# Altium footprint library SOP.PcbLib: 214 footprints (part 13 of 14)
Each footprint in its own frame and in the unit in brackets; x right, y up, seen from the top. Pads: shape width x height; smd on the part's side, far side on the other; paste and mask are expansions set on the pad; w line width, h text height; cw(c..) or ccw(c..) is an arc to the next point about the centre after c.
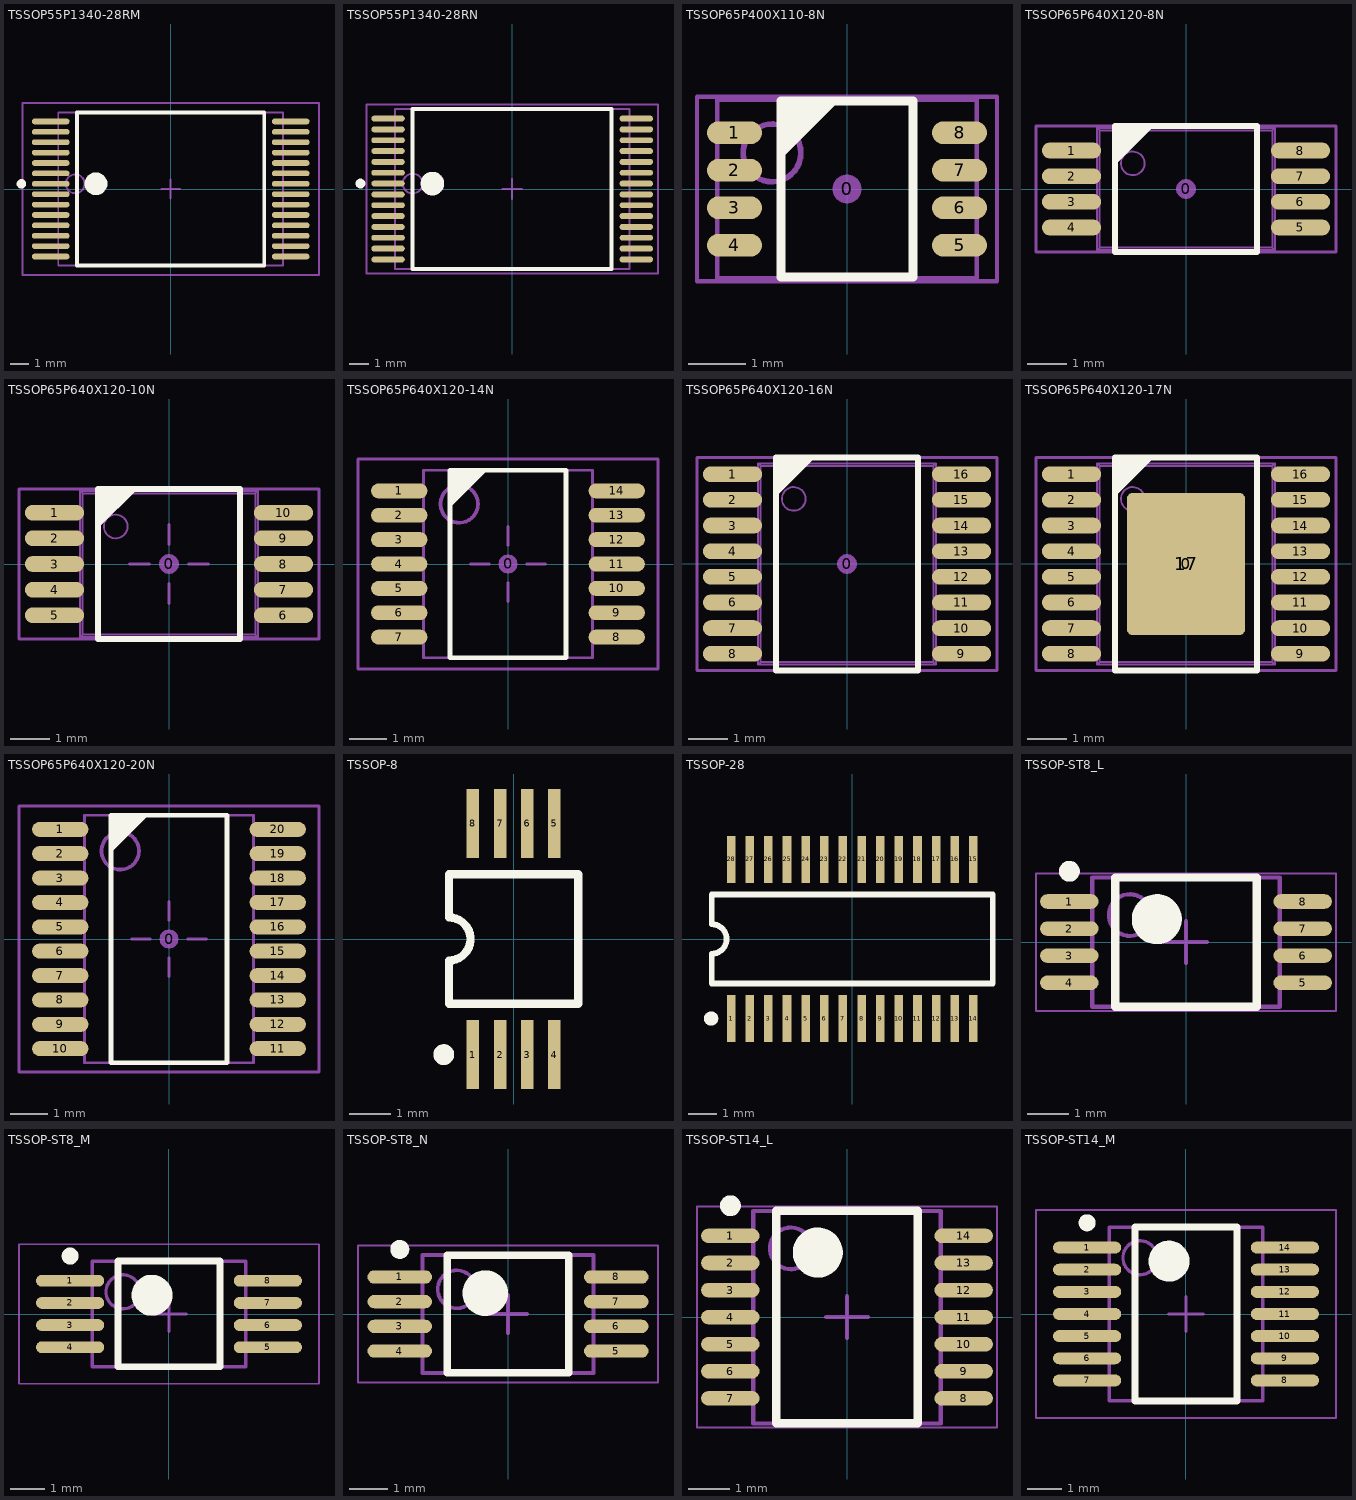
[diagram p12: the footprints below, top view; thin cyan lines are the x and y axes]

## TSSOP55P1340-28RM [mm] "TSSOP, 28-Leads, Body 8x11.8mm, Pitch 0.55mm, Reverse Pinning, IPC Low Density"
height 1.29
pads (28):
  oval 2x0.3 smd: 1(-6.35,0.275) 2(-6.35,0.825) 3(-6.35,1.375) 4(-6.35,1.925) 5(-6.35,2.475) 6(-6.35,3.025) 7(-6.35,3.575) 8(6.35,3.575) 9(6.35,3.025) 10(6.35,2.475) 11(6.35,1.925) 12(6.35,1.375) 13(6.35,0.825) 14(6.35,0.275) 15(6.35,-0.275) 16(6.35,-0.825) 17(6.35,-1.375) 18(6.35,-1.925) 19(6.35,-2.475) 20(6.35,-3.025) 21(6.35,-3.575) 22(-6.35,-3.575) 23(-6.35,-3.025) 24(-6.35,-2.475) 25(-6.35,-1.925) 26(-6.35,-1.375) 27(-6.35,-0.825) 28(-6.35,-0.275)
Top Overlay:
  circle w0.6: c-3.95,0.275 r0.3
  circle w0.25: c-7.9,0.275 r0.125
  lines w0.2: -4.95,-4.05 4.95,-4.05 4.95,4.05 -4.95,4.05 -4.95,-4.05
Mechanical 13:
  circle w0.1: c-5.05,0.275 r0.5
  lines w0.1: -5.95,-4.05 5.95,-4.05 5.95,4.05 -5.95,4.05 -5.95,-4.05
Mechanical 15:
  lines w0.1: -0.5,0 0.5,0 ; 0,-0.5 0,0.5 ; -7.85,-4.55 7.85,-4.55 7.85,4.55 -7.85,4.55 -7.85,-4.55
3D body: height 1.29, standoff 0.05, extent -5.95,-4.05 5.95,4.05

## TSSOP55P1340-28RN [mm] "TSSOP, 28-Leads, Body 8x11.8mm, Pitch 0.55mm, Reverse Pinning, IPC Medium Density"
height 1.29
pads (28):
  oval 1.7x0.3 smd: 1(-6.3,0.275) 2(-6.3,0.825) 3(-6.3,1.375) 4(-6.3,1.925) 5(-6.3,2.475) 6(-6.3,3.025) 7(-6.3,3.575) 8(6.3,3.575) 9(6.3,3.025) 10(6.3,2.475) 11(6.3,1.925) 12(6.3,1.375) 13(6.3,0.825) 14(6.3,0.275) 15(6.3,-0.275) 16(6.3,-0.825) 17(6.3,-1.375) 18(6.3,-1.925) 19(6.3,-2.475) 20(6.3,-3.025) 21(6.3,-3.575) 22(-6.3,-3.575) 23(-6.3,-3.025) 24(-6.3,-2.475) 25(-6.3,-1.925) 26(-6.3,-1.375) 27(-6.3,-0.825) 28(-6.3,-0.275)
Top Overlay:
  circle w0.6: c-4.05,0.275 r0.3
  circle w0.25: c-7.7,0.275 r0.125
  lines w0.2: -5.05,-4.05 5.05,-4.05 5.05,4.05 -5.05,4.05 -5.05,-4.05
Mechanical 13:
  circle w0.1: c-5.05,0.275 r0.5
  lines w0.1: -5.95,-4.05 5.95,-4.05 5.95,4.05 -5.95,4.05 -5.95,-4.05
Mechanical 15:
  lines w0.1: -0.5,0 0.5,0 ; 0,-0.5 0,0.5 ; -7.4,-4.3 7.4,-4.3 7.4,4.3 -7.4,4.3 -7.4,-4.3
3D body: height 1.29, standoff 0.05, extent -5.95,-4.05 5.95,4.05

## TSSOP65P400X110-8N [mm] "TSSOP, 8 Leads, Body 3.1x3.1mm (max), lead span 4.0mm, Pitch 0.65mm, IPC Medium Density"
height 1.1
pads (9):
  round 0.508 on Mech15: 0(0,0)
  oval 0.95x0.396 smd paste-0.051: 1(-1.95,0.975) 2(-1.95,0.325) 3(-1.95,-0.325) 4(-1.95,-0.975) 5(1.95,-0.975) 6(1.95,-0.325) 7(1.95,0.325) 8(1.95,0.975)
Top Overlay:
  region: -1.143,1.524 -0.143,1.524 -1.143,0.524
  lines w0.152: -1.143,-1.524 -1.143,1.524 1.143,1.524 1.143,-1.524 -1.143,-1.524
  text "." at -1.925,1.65 h0.1
Top Solder:
  region: 2.3,1.016 1.6,1.016 1.6,-1.016 2.3,-1.016
  rectangle: -2.3,-1.016 -1.6,1.016
Mechanical 13:
  circle w0.1: c-1.3,0.625 r0.5
  lines w0.076: -2.25,-1.55 -2.25,1.55 2.25,1.55 2.25,-1.55 -2.25,-1.55
Mechanical 15:
  lines w0.076: -2.6,-1.6 -2.6,1.6 2.6,1.6 2.6,-1.6 -2.6,-1.6
3D body "TSSOP65P400X110-8.STEP": height 1.09, standoff -0.01, extent -2.05,-1.55 2.05,1.55

## TSSOP65P640X120-8N [mm] "TSSOP, 8 Leads, Body 3.1x4.5mm (max), Pitch 0.65mm, IPC Medium Density"
height 1.2
pads (9):
  round 0.508 on Mech15: 0(0,0)
  oval 1.5x0.4 smd paste-0.051: 1(-2.9,0.975) 2(-2.9,0.325) 3(-2.9,-0.325) 4(-2.9,-0.975) 5(2.9,-0.975) 6(2.9,-0.325) 7(2.9,0.325) 8(2.9,0.975)
Top Overlay:
  region: -1.8,1.6 -0.8,1.6 -1.8,0.6
  lines w0.152: -1.8,-1.6 -1.8,1.6 1.8,1.6 1.8,-1.6 -1.8,-1.6
  text "." at -2.85,1.7 h0.1
Top Solder:
  rectangle: -3.5,-1.016 -2.3,1.016
  region: 3.5,1.016 2.3,1.016 2.3,-1.016 3.5,-1.016
Mechanical 13:
  circle w0.05: c-1.35,0.65 r0.3
  lines w0.05: -2.839,-1.125 -2.839,-0.825 ; -2.839,-0.475 -2.839,-0.175 ; -2.839,0.175 -2.839,0.475 ; -2.839,0.825 -2.839,1.125 ; -2.795,-1.125 -2.795,-0.825 ; -2.795,-0.475 -2.795,-0.175 ; -2.795,0.175 -2.795,0.475 ; -2.795,0.825 -2.795,1.125 ; -2.693,-1.125 -2.693,-0.825 ; -2.693,-0.475 -2.693,-0.175 ; -2.693,0.175 -2.693,0.475 ; -2.693,0.825 -2.693,1.125 ; -2.5,-1.125 -2.5,-0.825 ; -2.5,-0.475 -2.5,-0.175 ; -2.5,0.175 -2.5,0.475 ; -2.5,0.825 -2.5,1.125 ; -2.25,-1.125 -3.25,-1.125 -3.25,-0.825 -2.25,-0.825 ; -2.25,-0.475 -3.25,-0.475 -3.25,-0.175 -2.25,-0.175 ; -2.25,0.175 -3.25,0.175 -3.25,0.475 -2.25,0.475 ; -2.25,0.825 -3.25,0.825 -3.25,1.125 -2.25,1.125 ; 2.25,-1.125 3.25,-1.125 3.25,-0.825 2.25,-0.825 ; 2.25,-0.475 3.25,-0.475 3.25,-0.175 2.25,-0.175 ; 2.25,0.175 3.25,0.175 3.25,0.475 2.25,0.475 ; 2.25,0.825 3.25,0.825 3.25,1.125 2.25,1.125 ; 2.5,-1.125 2.5,-0.825 ; 2.5,-0.475 2.5,-0.175 ; 2.5,0.175 2.5,0.475 ; 2.5,0.825 2.5,1.125 ; 2.693,-1.125 2.693,-0.825 ; 2.693,-0.475 2.693,-0.175 ; 2.693,0.175 2.693,0.475 ; 2.693,0.825 2.693,1.125 ; 2.795,-1.125 2.795,-0.825 ; 2.795,-0.475 2.795,-0.175 ; 2.795,0.175 2.795,0.475 ; 2.795,0.825 2.795,1.125 ; 2.839,-1.125 2.839,-0.825 ; 2.839,-0.475 2.839,-0.175 ; 2.839,0.175 2.839,0.475 ; 2.839,0.825 2.839,1.125 ; -2.25,-1.55 -2.25,1.55 ; -2.25,-1.55 -2.187,-1.487 ; -2.25,-1.55 2.25,-1.55 ; -2.25,1.55 2.25,1.55 ; -2.25,1.55 -2.187,1.487 ; -2.187,-1.487 -2.187,1.487 ; -2.187,-1.487 2.187,-1.487 ; -2.187,1.487 2.187,1.487 ; 2.187,-1.487 2.187,1.487 ; 2.187,-1.487 2.25,-1.55 ; 2.187,1.487 2.25,1.55 ; 2.25,-1.55 2.25,1.55
Mechanical 15:
  lines w0.076: -3.8,-1.6 -3.8,1.6 3.8,1.6 3.8,-1.6 -3.8,-1.6
3D body "TSSOP-8.STEP": height 1.19, standoff -0.01, extent -3.25,-1.55 3.25,1.55

## TSSOP65P640X120-10N [mm] "TSSOP, 10 Leads, Body 3.7x4.5mm (max), Pitch 0.65mm, IPC Medium Density"
height 1.2
pads (11):
  round 0.508 on Mech15: 0(0,0)
  oval 1.5x0.4 smd paste-0.051: 1(-2.9,1.3) 2(-2.9,0.65) 3(-2.9,0) 4(-2.9,-0.65) 5(-2.9,-1.3) 6(2.9,-1.3) 7(2.9,-0.65) 8(2.9,0) 9(2.9,0.65) 10(2.9,1.3)
Top Overlay:
  region: -1.8,1.9 -0.8,1.9 -1.8,0.9
  lines w0.152: -1.8,-1.9 -1.8,1.9 1.8,1.9 1.8,-1.9 -1.8,-1.9
  text "." at -2.85,2.025 h0.1
Top Solder:
  rectangle: -3.5,-1.3 -2.3,1.3
  region: 3.5,1.3 2.3,1.3 2.3,-1.3 3.5,-1.3
Mechanical 13:
  circle w0.05: c-1.35,0.95 r0.3
  lines w0.05: -2.839,-1.45 -2.839,-1.15 ; -2.839,-0.8 -2.839,-0.5 ; -2.839,-0.15 -2.839,0.15 ; -2.839,0.5 -2.839,0.8 ; -2.839,1.15 -2.839,1.45 ; -2.795,-1.45 -2.795,-1.15 ; -2.795,-0.8 -2.795,-0.5 ; -2.795,-0.15 -2.795,0.15 ; -2.795,0.5 -2.795,0.8 ; -2.795,1.15 -2.795,1.45 ; -2.693,-1.45 -2.693,-1.15 ; -2.693,-0.8 -2.693,-0.5 ; -2.693,-0.15 -2.693,0.15 ; -2.693,0.5 -2.693,0.8 ; -2.693,1.15 -2.693,1.45 ; -2.5,-1.45 -2.5,-1.15 ; -2.5,-0.8 -2.5,-0.5 ; -2.5,-0.15 -2.5,0.15 ; -2.5,0.5 -2.5,0.8 ; -2.5,1.15 -2.5,1.45 ; -2.25,-1.45 -3.25,-1.45 -3.25,-1.15 -2.25,-1.15 ; -2.25,-0.8 -3.25,-0.8 -3.25,-0.5 -2.25,-0.5 ; -2.25,-0.15 -3.25,-0.15 -3.25,0.15 -2.25,0.15 ; -2.25,0.5 -3.25,0.5 -3.25,0.8 -2.25,0.8 ; -2.25,1.15 -3.25,1.15 -3.25,1.45 -2.25,1.45 ; 2.25,-1.45 3.25,-1.45 3.25,-1.15 2.25,-1.15 ; 2.25,-0.8 3.25,-0.8 3.25,-0.5 2.25,-0.5 ; 2.25,-0.15 3.25,-0.15 3.25,0.15 2.25,0.15 ; 2.25,0.5 3.25,0.5 3.25,0.8 2.25,0.8 ; 2.25,1.15 3.25,1.15 3.25,1.45 2.25,1.45 ; 2.5,-1.45 2.5,-1.15 ; 2.5,-0.8 2.5,-0.5 ; 2.5,-0.15 2.5,0.15 ; 2.5,0.5 2.5,0.8 ; 2.5,1.15 2.5,1.45 ; 2.693,-1.45 2.693,-1.15 ; 2.693,-0.8 2.693,-0.5 ; 2.693,-0.15 2.693,0.15 ; 2.693,0.5 2.693,0.8 ; 2.693,1.15 2.693,1.45 ; 2.795,-1.45 2.795,-1.15 ; 2.795,-0.8 2.795,-0.5 ; 2.795,-0.15 2.795,0.15 ; 2.795,0.5 2.795,0.8 ; 2.795,1.15 2.795,1.45 ; 2.839,-1.45 2.839,-1.15 ; 2.839,-0.8 2.839,-0.5 ; 2.839,-0.15 2.839,0.15 ; 2.839,0.5 2.839,0.8 ; 2.839,1.15 2.839,1.45 ; -2.25,-1.85 -2.25,1.85 ; -2.25,-1.85 -2.187,-1.787 ; -2.25,-1.85 2.25,-1.85 ; -2.25,1.85 2.25,1.85 ; -2.25,1.85 -2.187,1.787 ; -2.187,-1.787 -2.187,1.787 ; -2.187,-1.787 2.187,-1.787 ; -2.187,1.787 2.187,1.787 ; 2.187,-1.787 2.187,1.787 ; 2.187,-1.787 2.25,-1.85 ; 2.187,1.787 2.25,1.85 ; 2.25,-1.85 2.25,1.85
Mechanical 15:
  lines w0.076: -1,0 -0.5,0 ; 0,-1 0,-0.5 ; 0,0.5 0,1 ; 0.5,0 1,0 ; -3.8,-1.9 -3.8,1.9 3.8,1.9 3.8,-1.9 -3.8,-1.9
3D body "TSSOP65P640X120-10N.STEP": height 1.2, standoff 0, extent -3.25,-1.85 3.25,1.85

## TSSOP65P640X120-14N [mm] "TSSOP, 14-Leads, Body 5.0x4.5mm (max), Pitch 0.65mm, IPC Medium Density"
height 1.2
pads (15):
  round 0.508 on Mech15: 0(0,0)
  oval 1.5x0.4 smd paste-1: 1(-2.9,1.95) 2(-2.9,1.3) 3(-2.9,0.65) 4(-2.9,0) 5(-2.9,-0.65) 6(-2.9,-1.3) 7(-2.9,-1.95) 8(2.9,-1.95) 9(2.9,-1.3) 10(2.9,-0.65) 11(2.9,0) 12(2.9,0.65) 13(2.9,1.3) 14(2.9,1.95)
Top Overlay:
  region: -1.55,2.5 -0.55,2.5 -1.55,1.5
  lines w0.127: -1.55,-2.5 -1.55,2.5 1.55,2.5 1.55,-2.5 -1.55,-2.5
  text "." at -2.9,2.725 h0.1
Top Paste:
  region: 3.5,-1.8 2.3,-1.8 2.3,-2.1 3.5,-2.1
  region: 3.5,-1.15 2.3,-1.15 2.3,-1.45 3.5,-1.45
  region: 3.5,-0.5 2.3,-0.5 2.3,-0.8 3.5,-0.8
  region: 3.5,0.15 2.3,0.15 2.3,-0.15 3.5,-0.15
  region: 3.5,0.8 2.3,0.8 2.3,0.5 3.5,0.5
  region: 3.5,1.45 2.3,1.45 2.3,1.15 3.5,1.15
  region: 3.5,2.1 2.3,2.1 2.3,1.8 3.5,1.8
  rectangle: -3.5,1.8 -2.3,2.1
  rectangle: -3.5,1.15 -2.3,1.45
  rectangle: -3.5,0.5 -2.3,0.8
  rectangle: -3.5,-0.15 -2.3,0.15
  rectangle: -3.5,-0.8 -2.3,-0.5
  rectangle: -3.5,-1.45 -2.3,-1.15
  rectangle: -3.5,-2.1 -2.3,-1.8
Mechanical 13:
  circle w0.1: c-1.3,1.6 r0.5
  lines w0.076: -2.25,-2.5 -2.25,2.5 2.25,2.5 2.25,-2.5 -2.25,-2.5
Mechanical 15:
  lines w0.076: -1,0 -0.5,0 ; 0,-1 0,-0.5 ; 0,0.5 0,1 ; 0.5,0 1,0 ; -4,-2.8 -4,2.8 4,2.8 4,-2.8 -4,-2.8
3D body "SOP65P640X120-14N.stp": height 1.05, standoff 0, extent -3.205,-2.5 3.205,2.5

## TSSOP65P640X120-16N [mm] "TSSOP, 16 Leads, Body 5.1x4.5mm (max), Pitch 0.65mm, IPC Medium Density"
height 1.2
pads (17):
  round 0.508 on Mech15: 0(0,0)
  oval 1.5x0.4 smd paste-0.051: 1(-2.9,2.275) 2(-2.9,1.625) 3(-2.9,0.975) 4(-2.9,0.325) 5(-2.9,-0.325) 6(-2.9,-0.975) 7(-2.9,-1.625) 8(-2.9,-2.275) 9(2.9,-2.275) 10(2.9,-1.625) 11(2.9,-0.975) 12(2.9,-0.325) 13(2.9,0.325) 14(2.9,0.975) 15(2.9,1.625) 16(2.9,2.275)
Top Overlay:
  region: -1.8,2.7 -0.8,2.7 -1.8,1.7
  lines w0.152: -1.8,-2.7 1.8,-2.7 1.8,2.7 -1.8,2.7 -1.8,-2.7
  text "." at -2.85,3 h0.1
Top Solder:
  region: 3.5,2.4 2.3,2.4 2.3,-2.4 3.5,-2.4
  rectangle: -3.5,-2.4 -2.3,2.4
Mechanical 13:
  circle w0.05: c-1.35,1.65 r0.3
  lines w0.05: -2.839,-2.425 -2.839,-2.125 ; -2.839,-1.775 -2.839,-1.475 ; -2.839,-1.125 -2.839,-0.825 ; -2.839,-0.475 -2.839,-0.175 ; -2.839,0.175 -2.839,0.475 ; -2.839,0.825 -2.839,1.125 ; -2.839,1.475 -2.839,1.775 ; -2.839,2.125 -2.839,2.425 ; -2.795,-2.425 -2.795,-2.125 ; -2.795,-1.775 -2.795,-1.475 ; -2.795,-1.125 -2.795,-0.825 ; -2.795,-0.475 -2.795,-0.175 ; -2.795,0.175 -2.795,0.475 ; -2.795,0.825 -2.795,1.125 ; -2.795,1.475 -2.795,1.775 ; -2.795,2.125 -2.795,2.425 ; -2.693,-2.425 -2.693,-2.125 ; -2.693,-1.775 -2.693,-1.475 ; -2.693,-1.125 -2.693,-0.825 ; -2.693,-0.475 -2.693,-0.175 ; -2.693,0.175 -2.693,0.475 ; -2.693,0.825 -2.693,1.125 ; -2.693,1.475 -2.693,1.775 ; -2.693,2.125 -2.693,2.425 ; -2.5,-2.425 -2.5,-2.125 ; -2.5,-1.775 -2.5,-1.475 ; -2.5,-1.125 -2.5,-0.825 ; -2.5,-0.475 -2.5,-0.175 ; -2.5,0.175 -2.5,0.475 ; -2.5,0.825 -2.5,1.125 ; -2.5,1.475 -2.5,1.775 ; -2.5,2.125 -2.5,2.425 ; -2.25,-2.425 -3.25,-2.425 -3.25,-2.125 -2.25,-2.125 ; -2.25,-1.775 -3.25,-1.775 -3.25,-1.475 -2.25,-1.475 ; -2.25,-1.125 -3.25,-1.125 -3.25,-0.825 -2.25,-0.825 ; -2.25,-0.475 -3.25,-0.475 -3.25,-0.175 -2.25,-0.175 ; -2.25,0.175 -3.25,0.175 -3.25,0.475 -2.25,0.475 ; -2.25,0.825 -3.25,0.825 -3.25,1.125 -2.25,1.125 ; -2.25,1.475 -3.25,1.475 -3.25,1.775 -2.25,1.775 ; -2.25,2.125 -3.25,2.125 -3.25,2.425 -2.25,2.425 ; 2.25,-2.425 3.25,-2.425 3.25,-2.125 2.25,-2.125 ; 2.25,-1.775 3.25,-1.775 3.25,-1.475 2.25,-1.475 ; 2.25,-1.125 3.25,-1.125 3.25,-0.825 2.25,-0.825 ; 2.25,-0.475 3.25,-0.475 3.25,-0.175 2.25,-0.175 ; 2.25,0.175 3.25,0.175 3.25,0.475 2.25,0.475 ; 2.25,0.825 3.25,0.825 3.25,1.125 2.25,1.125 ; 2.25,1.475 3.25,1.475 3.25,1.775 2.25,1.775 ; 2.25,2.125 3.25,2.125 3.25,2.425 2.25,2.425 ; 2.5,-2.425 2.5,-2.125 ; 2.5,-1.775 2.5,-1.475 ; 2.5,-1.125 2.5,-0.825 ; 2.5,-0.475 2.5,-0.175 ; 2.5,0.175 2.5,0.475 ; 2.5,0.825 2.5,1.125 ; 2.5,1.475 2.5,1.775 ; 2.5,2.125 2.5,2.425 ; 2.693,-2.425 2.693,-2.125 ; 2.693,-1.775 2.693,-1.475 ; 2.693,-1.125 2.693,-0.825 ; 2.693,-0.475 2.693,-0.175 ; 2.693,0.175 2.693,0.475 ; 2.693,0.825 2.693,1.125 ; 2.693,1.475 2.693,1.775 ; 2.693,2.125 2.693,2.425 ; 2.795,-2.425 2.795,-2.125 ; 2.795,-1.775 2.795,-1.475 ; 2.795,-1.125 2.795,-0.825 ; 2.795,-0.475 2.795,-0.175 ; 2.795,0.175 2.795,0.475 ; 2.795,0.825 2.795,1.125 ; 2.795,1.475 2.795,1.775 ; 2.795,2.125 2.795,2.425 ; 2.839,-2.425 2.839,-2.125 ; 2.839,-1.775 2.839,-1.475 ; 2.839,-1.125 2.839,-0.825 ; 2.839,-0.475 2.839,-0.175 ; 2.839,0.175 2.839,0.475 ; 2.839,0.825 2.839,1.125 ; 2.839,1.475 2.839,1.775 ; 2.839,2.125 2.839,2.425 ; -2.25,-2.55 2.25,-2.55 ; -2.25,-2.55 -2.187,-2.487 ; -2.25,-2.55 -2.25,2.55 ; -2.25,2.55 -2.187,2.487 ; -2.25,2.55 2.25,2.55 ; -2.187,-2.487 2.187,-2.487 ; -2.187,-2.487 -2.187,2.487 ; -2.187,2.487 2.187,2.487 ; 2.187,-2.487 2.25,-2.55 ; 2.187,-2.487 2.187,2.487 ; 2.187,2.487 2.25,2.55 ; 2.25,-2.55 2.25,2.55
Mechanical 15:
  lines w0.076: -3.8,-2.7 3.8,-2.7 3.8,2.7 -3.8,2.7 -3.8,-2.7
3D body "TSSOP65P640X120-16N.STEP": height 1.2, standoff 0, extent -3.25,-2.55 3.25,2.55

## TSSOP65P640X120-17N [mm] "TSSOP, 16 Leads with exposed body pad, Body 5.1x4.5mm (max), Pitch 0.65mm, IPC Medium Density"
height 1.2
pads (18):
  round 0.508 on Mech15: 0(0,0)
  oval 1.5x0.4 smd paste-0.051: 1(-2.9,2.275) 2(-2.9,1.625) 3(-2.9,0.975) 4(-2.9,0.325) 5(-2.9,-0.325) 6(-2.9,-0.975) 7(-2.9,-1.625) 8(-2.9,-2.275) 9(2.9,-2.275) 10(2.9,-1.625) 11(2.9,-0.975) 12(2.9,-0.325) 13(2.9,0.325) 14(2.9,0.975) 15(2.9,1.625) 16(2.9,2.275)
  rrect10% 3x3.6 smd paste-0.051: 17(0,0)
Top Overlay:
  region: -1.8,2.7 -0.8,2.7 -1.8,1.7
  lines w0.152: -1.8,-2.7 -1.8,2.7 1.8,2.7 1.8,-2.7 -1.8,-2.7
  text "." at -2.85,3 h0.1
Top Solder:
  rectangle: -3.5,-2.4 -2.3,2.4
  region: 3.5,2.4 2.3,2.4 2.3,-2.4 3.5,-2.4
Mechanical 13:
  circle w0.05: c-1.35,1.65 r0.3
  lines w0.05: -2.839,-2.425 -2.839,-2.125 ; -2.839,-1.775 -2.839,-1.475 ; -2.839,-1.125 -2.839,-0.825 ; -2.839,-0.475 -2.839,-0.175 ; -2.839,0.175 -2.839,0.475 ; -2.839,0.825 -2.839,1.125 ; -2.839,1.475 -2.839,1.775 ; -2.839,2.125 -2.839,2.425 ; -2.795,-2.425 -2.795,-2.125 ; -2.795,-1.775 -2.795,-1.475 ; -2.795,-1.125 -2.795,-0.825 ; -2.795,-0.475 -2.795,-0.175 ; -2.795,0.175 -2.795,0.475 ; -2.795,0.825 -2.795,1.125 ; -2.795,1.475 -2.795,1.775 ; -2.795,2.125 -2.795,2.425 ; -2.693,-2.425 -2.693,-2.125 ; -2.693,-1.775 -2.693,-1.475 ; -2.693,-1.125 -2.693,-0.825 ; -2.693,-0.475 -2.693,-0.175 ; -2.693,0.175 -2.693,0.475 ; -2.693,0.825 -2.693,1.125 ; -2.693,1.475 -2.693,1.775 ; -2.693,2.125 -2.693,2.425 ; -2.5,-2.425 -2.5,-2.125 ; -2.5,-1.775 -2.5,-1.475 ; -2.5,-1.125 -2.5,-0.825 ; -2.5,-0.475 -2.5,-0.175 ; -2.5,0.175 -2.5,0.475 ; -2.5,0.825 -2.5,1.125 ; -2.5,1.475 -2.5,1.775 ; -2.5,2.125 -2.5,2.425 ; -2.25,-2.425 -3.25,-2.425 -3.25,-2.125 -2.25,-2.125 ; -2.25,-1.775 -3.25,-1.775 -3.25,-1.475 -2.25,-1.475 ; -2.25,-1.125 -3.25,-1.125 -3.25,-0.825 -2.25,-0.825 ; -2.25,-0.475 -3.25,-0.475 -3.25,-0.175 -2.25,-0.175 ; -2.25,0.175 -3.25,0.175 -3.25,0.475 -2.25,0.475 ; -2.25,0.825 -3.25,0.825 -3.25,1.125 -2.25,1.125 ; -2.25,1.475 -3.25,1.475 -3.25,1.775 -2.25,1.775 ; -2.25,2.125 -3.25,2.125 -3.25,2.425 -2.25,2.425 ; 2.25,-2.425 3.25,-2.425 3.25,-2.125 2.25,-2.125 ; 2.25,-1.775 3.25,-1.775 3.25,-1.475 2.25,-1.475 ; 2.25,-1.125 3.25,-1.125 3.25,-0.825 2.25,-0.825 ; 2.25,-0.475 3.25,-0.475 3.25,-0.175 2.25,-0.175 ; 2.25,0.175 3.25,0.175 3.25,0.475 2.25,0.475 ; 2.25,0.825 3.25,0.825 3.25,1.125 2.25,1.125 ; 2.25,1.475 3.25,1.475 3.25,1.775 2.25,1.775 ; 2.25,2.125 3.25,2.125 3.25,2.425 2.25,2.425 ; 2.5,-2.425 2.5,-2.125 ; 2.5,-1.775 2.5,-1.475 ; 2.5,-1.125 2.5,-0.825 ; 2.5,-0.475 2.5,-0.175 ; 2.5,0.175 2.5,0.475 ; 2.5,0.825 2.5,1.125 ; 2.5,1.475 2.5,1.775 ; 2.5,2.125 2.5,2.425 ; 2.693,-2.425 2.693,-2.125 ; 2.693,-1.775 2.693,-1.475 ; 2.693,-1.125 2.693,-0.825 ; 2.693,-0.475 2.693,-0.175 ; 2.693,0.175 2.693,0.475 ; 2.693,0.825 2.693,1.125 ; 2.693,1.475 2.693,1.775 ; 2.693,2.125 2.693,2.425 ; 2.795,-2.425 2.795,-2.125 ; 2.795,-1.775 2.795,-1.475 ; 2.795,-1.125 2.795,-0.825 ; 2.795,-0.475 2.795,-0.175 ; 2.795,0.175 2.795,0.475 ; 2.795,0.825 2.795,1.125 ; 2.795,1.475 2.795,1.775 ; 2.795,2.125 2.795,2.425 ; 2.839,-2.425 2.839,-2.125 ; 2.839,-1.775 2.839,-1.475 ; 2.839,-1.125 2.839,-0.825 ; 2.839,-0.475 2.839,-0.175 ; 2.839,0.175 2.839,0.475 ; 2.839,0.825 2.839,1.125 ; 2.839,1.475 2.839,1.775 ; 2.839,2.125 2.839,2.425 ; -2.25,-2.55 -2.25,2.55 ; -2.25,-2.55 -2.187,-2.487 ; -2.25,-2.55 2.25,-2.55 ; -2.25,2.55 2.25,2.55 ; -2.25,2.55 -2.187,2.487 ; -2.187,-2.487 -2.187,2.487 ; -2.187,-2.487 2.187,-2.487 ; -2.187,2.487 2.187,2.487 ; 2.187,-2.487 2.187,2.487 ; 2.187,-2.487 2.25,-2.55 ; 2.187,2.487 2.25,2.55 ; 2.25,-2.55 2.25,2.55
Mechanical 15:
  lines w0.076: -3.8,-2.7 -3.8,2.7 3.8,2.7 3.8,-2.7 -3.8,-2.7
3D body "TSSOP65P640X120-16N.STEP": height 1.2, standoff 0, extent -3.25,-2.55 3.25,2.55

## TSSOP65P640X120-20N [mm] "TSSOP, 20-Leads, Body 6.6x4.5mm (max), Pitch 0.65mm, IPC Medium Density"
height 1.2
pads (21):
  round 0.508 on Mech15 mask+0.127: 0(0,0)
  oval 1.5x0.4 smd paste-1 mask+0.127: 1(-2.9,2.925) 2(-2.9,2.275) 3(-2.9,1.625) 4(-2.9,0.975) 5(-2.9,0.325) 6(-2.9,-0.325) 7(-2.9,-0.975) 8(-2.9,-1.625) 9(-2.9,-2.275) 10(-2.9,-2.925) 11(2.9,-2.925) 12(2.9,-2.275) 13(2.9,-1.625) 14(2.9,-0.975) 15(2.9,-0.325) 16(2.9,0.325) 17(2.9,0.975) 18(2.9,1.625) 19(2.9,2.275) 20(2.9,2.925)
Top Overlay:
  region: -1.55,3.3 -0.55,3.3 -1.55,2.3
  lines w0.127: -1.55,-3.3 1.55,-3.3 1.55,3.3 -1.55,3.3 -1.55,-3.3
  text "." at -2.85,3.7 h0.1
Top Paste:
  region: 3.5,-2.775 2.3,-2.775 2.3,-3.075 3.5,-3.075
  region: 3.5,-2.125 2.3,-2.125 2.3,-2.425 3.5,-2.425
  region: 3.5,-1.475 2.3,-1.475 2.3,-1.775 3.5,-1.775
  rectangle: -3.5,-1.775 -2.3,-1.475
  rectangle: -3.5,-2.425 -2.3,-2.125
  rectangle: -3.5,-3.075 -2.3,-2.775
  rectangle: -3.5,-1.125 -2.3,-0.825
  rectangle: -3.5,-0.475 -2.3,-0.175
  rectangle: -3.5,0.175 -2.3,0.475
  rectangle: -3.5,0.825 -2.3,1.125
  rectangle: -3.5,1.475 -2.3,1.775
  rectangle: -3.5,2.125 -2.3,2.425
  rectangle: -3.5,2.775 -2.3,3.075
  region: 3.5,3.075 2.3,3.075 2.3,2.775 3.5,2.775
  region: 3.5,2.425 2.3,2.425 2.3,2.125 3.5,2.125
  region: 3.5,1.775 2.3,1.775 2.3,1.475 3.5,1.475
  region: 3.5,1.125 2.3,1.125 2.3,0.825 3.5,0.825
  region: 3.5,0.475 2.3,0.475 2.3,0.175 3.5,0.175
  region: 3.5,-0.175 2.3,-0.175 2.3,-0.475 3.5,-0.475
  region: 3.5,-0.825 2.3,-0.825 2.3,-1.125 3.5,-1.125
Mechanical 13:
  circle w0.1: c-1.3,2.35 r0.5
  lines w0.076: -2.25,-3.3 2.25,-3.3 2.25,3.3 -2.25,3.3 -2.25,-3.3
Mechanical 15:
  lines w0.076: -1,0 -0.5,0 ; 0,-1 0,-0.5 ; 0,0.5 0,1 ; 0.5,0 1,0 ; -4,-3.55 4,-3.55 4,3.55 -4,3.55 -4,-3.55
3D body "TSSOP65P640X120-20N.STEP": height 1.2, standoff 0, extent -3.2,-3.25 3.2,3.25

## TSSOP-8 [mm] "Shrink Small Outline; 8 Leads; Body Width 4.4 mm; Pitch 0.65 mm"
height 1.2
pads (8):
  rect 0.3x1.65 smd: 1(-0.975,-2.775) 2(-0.325,-2.775) 3(0.325,-2.775) 4(0.975,-2.775) 5(0.975,2.775) 6(0.325,2.775) 7(-0.325,2.775) 8(-0.975,2.775)
Top Overlay:
  circle w0.25: c-1.675,-2.775 r0.125
  lines w0.2: -1.55,-1.55 1.55,-1.55 1.55,1.55 -1.55,1.55 -1.55,0.517 cw(c-1.55,0) -1.55,-0.517 -1.55,-1.55

## TSSOP-28 [mm] "Shrink Small Outline; 28 Leads; Body Width 4.4 mm; Pitch 0.65 mm"
height 1.2
pads (28):
  rect 0.3x1.65 smd: 1(-4.225,-2.775) 2(-3.575,-2.775) 3(-2.925,-2.775) 4(-2.275,-2.775) 5(-1.625,-2.775) 6(-0.975,-2.775) 7(-0.325,-2.775) 8(0.325,-2.775) 9(0.975,-2.775) 10(1.625,-2.775) 11(2.275,-2.775) 12(2.925,-2.775) 13(3.575,-2.775) 14(4.225,-2.775) 15(4.225,2.775) 16(3.575,2.775) 17(2.925,2.775) 18(2.275,2.775) 19(1.625,2.775) 20(0.975,2.775) 21(0.325,2.775) 22(-0.325,2.775) 23(-0.975,2.775) 24(-1.625,2.775) 25(-2.275,2.775) 26(-2.925,2.775) 27(-3.575,2.775) 28(-4.225,2.775)
Top Overlay:
  circle w0.25: c-4.925,-2.775 r0.125
  lines w0.2: -4.9,-1.55 -4.9,-0.517 ccw(c-4.9,0) -4.9,0.517 -4.9,1.55 4.9,1.55 4.9,-1.55 -4.9,-1.55
3D body "User Library-tssop28.STEP": height 1.2, standoff 0, extent -4.9,-3.2 4.9,3.2

## TSSOP-ST8_L [mm] "TSOP, 8-Leads, Body 3x4.4mm, Pitch 0.65mm, IPC High Density"
height 1.2
pads (8):
  oval 1.4x0.35 smd: 1(-2.8,0.975) 2(-2.8,0.325) 3(-2.8,-0.325) 4(-2.8,-0.975) 5(2.8,-0.975) 6(2.8,-0.325) 7(2.8,0.325) 8(2.8,0.975)
Top Overlay:
  circle w0.25: c-2.8,1.7 r0.125
  circle w0.6: c-0.7,0.55 r0.3
  lines w0.2: -1.7,-1.55 -1.7,1.55 1.7,1.55 1.7,-1.55 -1.7,-1.55
Mechanical 13:
  circle w0.1: c-1.35,0.65 r0.5
  lines w0.1: -2.25,-1.55 -2.25,1.55 2.25,1.55 2.25,-1.55 -2.25,-1.55
Mechanical 15:
  lines w0.05: -3.6,-1.65 -3.6,1.65 3.6,1.65 3.6,-1.65 -3.6,-1.65
  lines w0.1: -0.5,0 0.5,0 ; 0,-0.5 0,0.5
3D body: height 1.2, standoff 0.05, extent -2.25,-1.55 2.25,1.55

## TSSOP-ST8_M [mm] "TSOP, 8-Leads, Body 3x4.4mm, Pitch 0.65mm, IPC Low Density"
height 1.2
pads (8):
  oval 2x0.35 smd: 1(-2.9,0.975) 2(-2.9,0.325) 3(-2.9,-0.325) 4(-2.9,-0.975) 5(2.9,-0.975) 6(2.9,-0.325) 7(2.9,0.325) 8(2.9,0.975)
Top Overlay:
  circle w0.25: c-2.9,1.7 r0.125
  circle w0.6: c-0.5,0.55 r0.3
  lines w0.2: -1.5,-1.55 -1.5,1.55 1.5,1.55 1.5,-1.55 -1.5,-1.55
Mechanical 13:
  circle w0.1: c-1.35,0.65 r0.5
  lines w0.1: -2.25,-1.55 -2.25,1.55 2.25,1.55 2.25,-1.55 -2.25,-1.55
Mechanical 15:
  lines w0.05: -4.4,-2.05 -4.4,2.05 4.4,2.05 4.4,-2.05 -4.4,-2.05
  lines w0.1: -0.5,0 0.5,0 ; 0,-0.5 0,0.5
3D body: height 1.2, standoff 0.05, extent -2.25,-1.55 2.25,1.55

## TSSOP-ST8_N [mm] "TSOP, 8-Leads, Body 3x4.4mm, Pitch 0.65mm, IPC Medium Density"
height 1.2
pads (8):
  oval 1.7x0.35 smd: 1(-2.85,0.975) 2(-2.85,0.325) 3(-2.85,-0.325) 4(-2.85,-0.975) 5(2.85,-0.975) 6(2.85,-0.325) 7(2.85,0.325) 8(2.85,0.975)
Top Overlay:
  circle w0.6: c-0.6,0.55 r0.3
  circle w0.25: c-2.85,1.7 r0.125
  lines w0.2: -1.6,-1.55 1.6,-1.55 1.6,1.55 -1.6,1.55 -1.6,-1.55
Mechanical 13:
  circle w0.1: c-1.35,0.65 r0.5
  lines w0.1: -2.25,-1.55 2.25,-1.55 2.25,1.55 -2.25,1.55 -2.25,-1.55
Mechanical 15:
  lines w0.05: -3.95,-1.8 3.95,-1.8 3.95,1.8 -3.95,1.8 -3.95,-1.8
  lines w0.1: -0.5,0 0.5,0 ; 0,-0.5 0,0.5
3D body: height 1.2, standoff 0.05, extent -2.25,-1.55 2.25,1.55

## TSSOP-ST14_L [mm] "TSOP, 14-Leads, Body 5x4.4mm, Pitch 0.65mm, IPC High Density"
height 1.2
pads (14):
  oval 1.4x0.35 smd: 1(-2.8,1.95) 2(-2.8,1.3) 3(-2.8,0.65) 4(-2.8,0) 5(-2.8,-0.65) 6(-2.8,-1.3) 7(-2.8,-1.95) 8(2.8,-1.95) 9(2.8,-1.3) 10(2.8,-0.65) 11(2.8,0) 12(2.8,0.65) 13(2.8,1.3) 14(2.8,1.95)
Top Overlay:
  circle w0.6: c-0.7,1.55 r0.3
  circle w0.25: c-2.8,2.675 r0.125
  lines w0.2: -1.7,-2.55 1.7,-2.55 1.7,2.55 -1.7,2.55 -1.7,-2.55
Mechanical 13:
  circle w0.1: c-1.35,1.65 r0.5
  lines w0.1: -2.25,-2.55 2.25,-2.55 2.25,2.55 -2.25,2.55 -2.25,-2.55
Mechanical 15:
  lines w0.05: -3.6,-2.65 3.6,-2.65 3.6,2.65 -3.6,2.65 -3.6,-2.65
  lines w0.1: -0.5,0 0.5,0 ; 0,-0.5 0,0.5
3D body: height 1.2, standoff 0.05, extent -2.25,-2.55 2.25,2.55

## TSSOP-ST14_M [mm] "TSOP, 14-Leads, Body 5x4.4mm, Pitch 0.65mm, IPC Low Density"
height 1.2
pads (14):
  oval 2x0.35 smd: 1(-2.9,1.95) 2(-2.9,1.3) 3(-2.9,0.65) 4(-2.9,0) 5(-2.9,-0.65) 6(-2.9,-1.3) 7(-2.9,-1.95) 8(2.9,-1.95) 9(2.9,-1.3) 10(2.9,-0.65) 11(2.9,0) 12(2.9,0.65) 13(2.9,1.3) 14(2.9,1.95)
Top Overlay:
  circle w0.6: c-0.5,1.55 r0.3
  circle w0.25: c-2.9,2.675 r0.125
  lines w0.2: -1.5,-2.55 1.5,-2.55 1.5,2.55 -1.5,2.55 -1.5,-2.55
Mechanical 13:
  circle w0.1: c-1.35,1.65 r0.5
  lines w0.1: -2.25,-2.55 2.25,-2.55 2.25,2.55 -2.25,2.55 -2.25,-2.55
Mechanical 15:
  lines w0.05: -4.4,-3.05 4.4,-3.05 4.4,3.05 -4.4,3.05 -4.4,-3.05
  lines w0.1: -0.5,0 0.5,0 ; 0,-0.5 0,0.5
3D body: height 1.2, standoff 0.05, extent -2.25,-2.55 2.25,2.55